# Altium schematic symbol library ERA-8VEB4700V.SchLib: 1 symbol
Pins are listed as number, name and electrical type; pins without a type are passive.

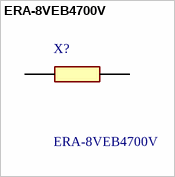
[diagram p0: symbol ERA-8VEB4700V]

## ERA-8VEB4700V
designator X?
Series/Type: Thin Film Chip Resistors, High Stability and Reliability Type, Power Rating (W): 0.25, Chip Size (LxW(EIA)) (mm): 3.2 x 1.6 (EIA:1206), Resistance Values (): 470, Resistance Tolerance (%): 0.1, T.C.R (10/K): +/-25; Manufacturer_Name: Panasonic; Geometry.Height: 0.65mm; Mouser Part Number: *; Mouser Price/Stock: *; Manufacturer_Part_Number: ERA-8VEB4700V; Datasheet Link: https://industrial.panasonic.com/cdbs/www-data/pdf/RDM0000/RDM0000C331.pdf
footprint ERA8KEB1004V
pins: 1, 2